# Altium footprint library VAR_LITTELFUSE_V10E.PcbLib: 1 footprints
Each footprint in its own frame and in the unit in brackets; x right, y up, seen from the top. Pads: shape width x height; smd on the part's side, far side on the other; paste and mask are expansions set on the pad; w line width, h text height; cw(c..) or ccw(c..) is an arc to the next point about the centre after c.
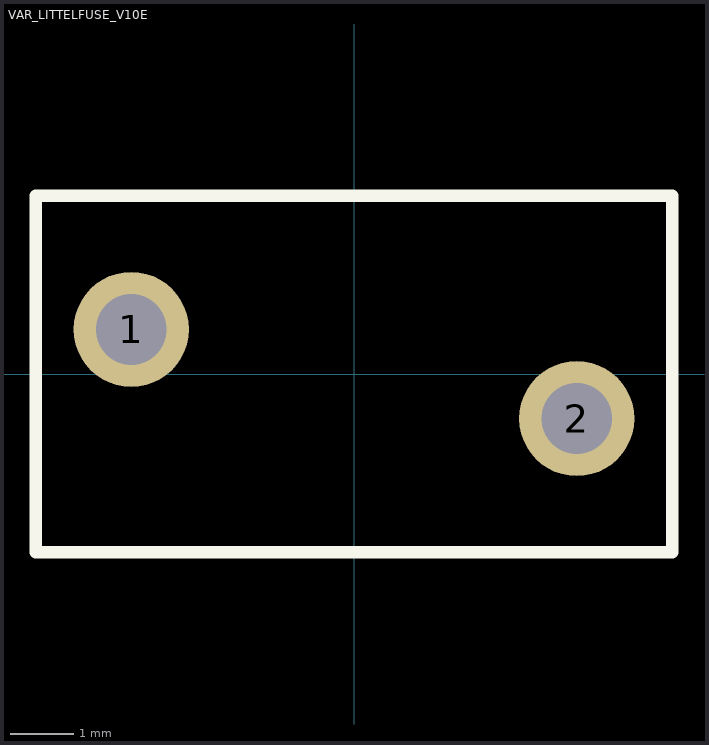
[diagram p0: the footprint, top view; thin cyan lines are the x and y axes]

## VAR_LITTELFUSE_V10E [mm] "VARISTOR DISC 10MM"
height 17
pads (2):
  round 1.81 hole 1.11: 1(-3.5,0.7) 2(3.5,-0.7)
Top Overlay:
  lines w0.2: -5,-2.8 5,-2.8 5,0 5,2.8 -5,2.8 -5,-2.8
3D body: height 12, standoff 2, extent -5,-2.8 5,2.8
3D body: height 8, standoff -2, extent 3.103,-1.099 3.9,-0.301
3D body: height 8, standoff -2, extent -3.906,0.285 -3.109,1.084